# Altium footprint library magcontrol.PCBLIB: 54 footprints (part 1 of 4)
Each footprint in its own frame and in the unit in brackets; x right, y up, seen from the top. Pads: shape width x height; smd on the part's side, far side on the other; paste and mask are expansions set on the pad; w line width, h text height; cw(c..) or ccw(c..) is an arc to the next point about the centre after c.
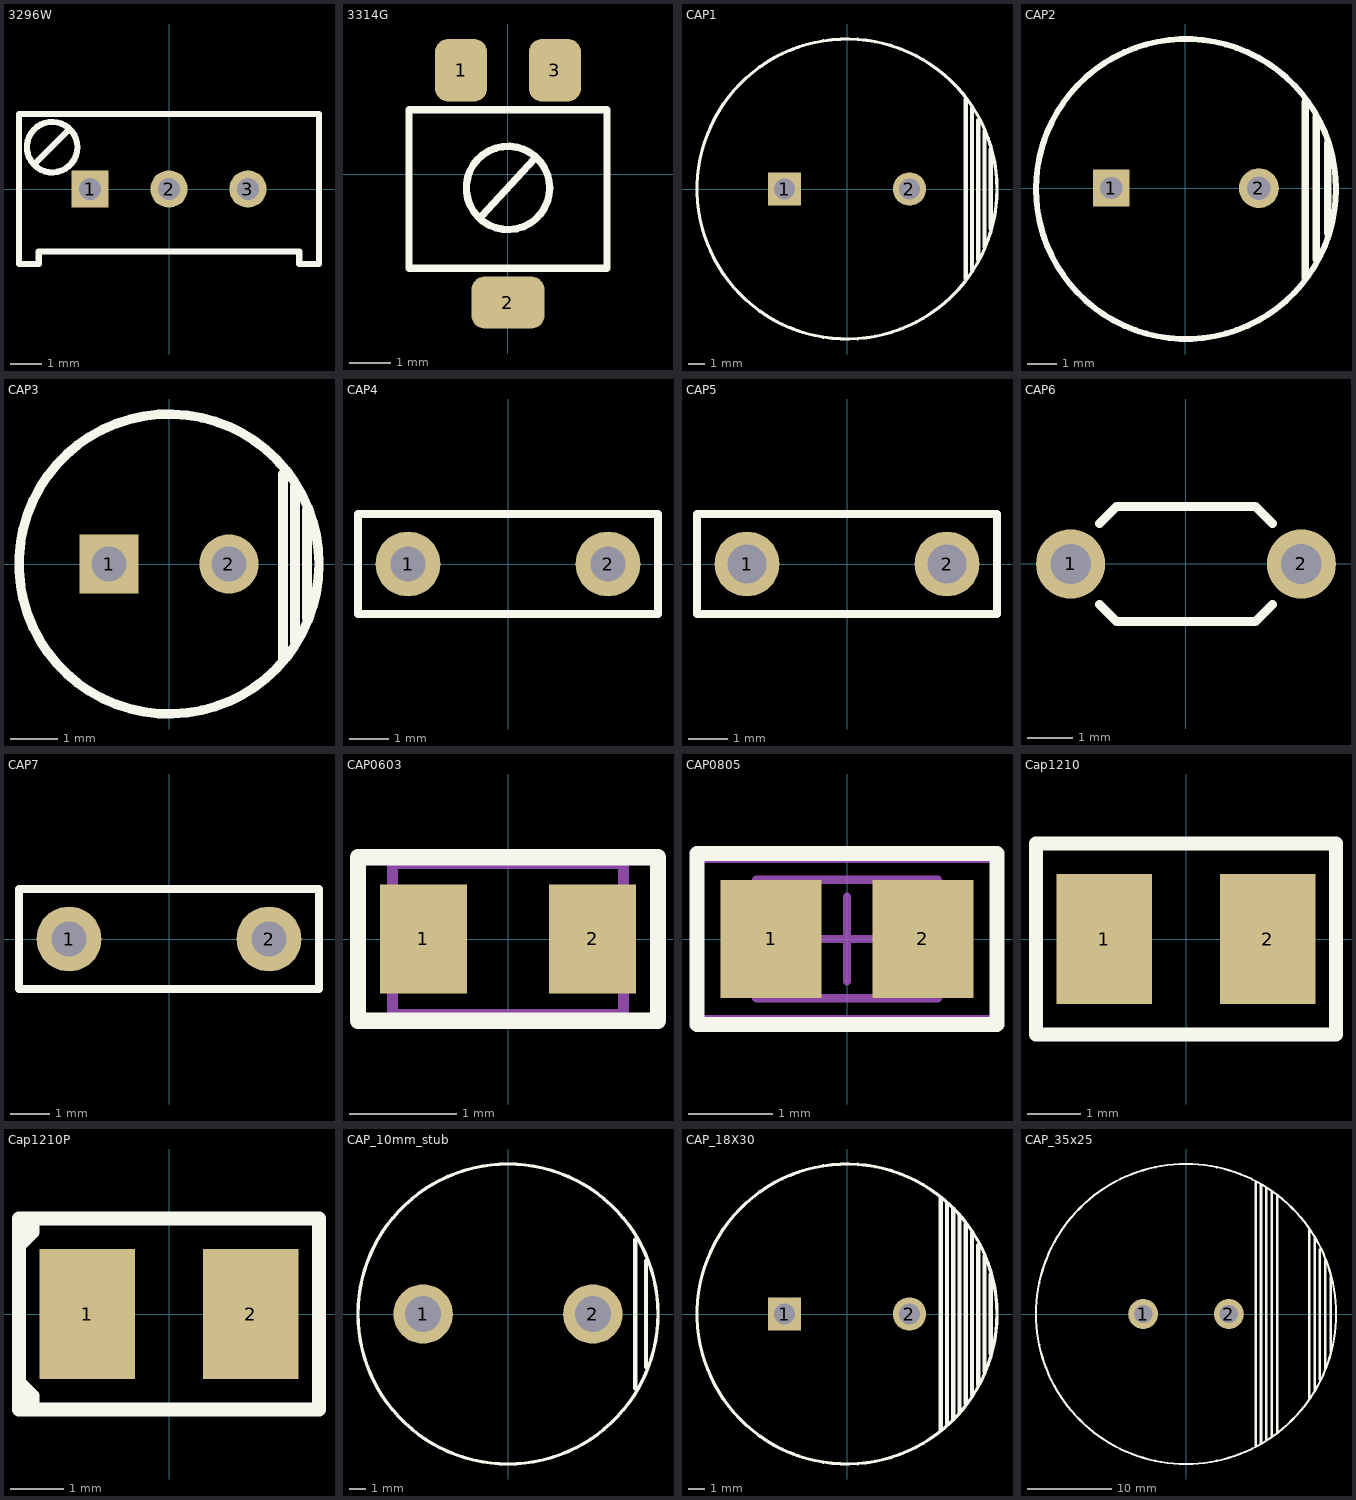
[diagram p0: the footprints below, top view; thin cyan lines are the x and y axes]

## 3296W [mm] "Thru-Hole; 3 Leads"
pads (3):
  rect 1.2x1.2 hole 0.7: 1(-2.54,0)
  round 1.2 hole 0.7: 2(0,0) 3(2.54,0)
Top Overlay:
  circle w0.2: c-3.759,1.346 r0.813
  lines w0.2: -4.318,0.813 -3.264,1.867 ; -4.826,-2.413 -4.826,2.413 4.826,2.413 4.826,-2.413 4.191,-2.413 4.191,-2.007 -4.191,-2.007 -4.191,-2.413 -4.826,-2.413
3D body: height 1.27, standoff -1.27, extent 2.357,-0.183 2.723,0.183
3D body: height 1.27, standoff -1.27, extent -0.183,-0.183 0.183,0.183
3D body: height 1.27, standoff -1.27, extent -2.723,-0.183 -2.357,0.183
3D body: height 10.29, standoff 0.25, extent -4.825,-2.412 4.825,2.412
3D body: height 11.94, standoff 10.16, extent -4.659,0.001 -3.782,2.234
3D body: height 11.94, standoff 10.16, extent -3.229,0.001 -2.352,2.234
3D body: height 11.3, standoff 10.16, extent -4.658,-0.035 -2.353,2.27

## 3314G [mil] "Thru-Hole; 3 Leads"
pads (3):
  rrect50% 50x60 smd: 1(-45,100) 3(45,100)
  rrect50% 70x50 smd: 2(0,-123)
Top Overlay:
  circle w7: c0,-13 r40
  lines w7: -25,-40 25,15 ; -95,-90 95,-90 95,62 -95,62 -95,-90
3D body: height 106.92, standoff -0.5, extent -97.81,-135 99,109

## CAP1 [mil]
height 1000
pads (2):
  rect 80x80 hole 50: 1(-150,0)
  round 80 hole 50: 2(150,0)
Top Overlay:
  circle w7.87: c0,0 r360
  lines w10: 285,-215 285,215 ; 300,-195 300,195 ; 315,-170 315,165 ; 330,-140 330,140 ; 345,-95 345,95
3D body: height 1304.29, standoff -251.22, extent -354.33,-354.32 354.72,354.34

## CAP2 [mm]
pads (2):
  rect 1.25x1.25 hole 0.75: 1(-2.5,0)
  round 1.35 hole 0.8: 2(2.5,0)
Top Overlay:
  circle w0.2: c0.03,-0.03 r5.08
  lines w0.254: 4.064,-3.048 4.064,2.921 ; 4.445,-2.413 4.445,2.413 ; 4.826,-1.524 4.826,1.524
3D body: height 14.1, standoff -4.72, extent -4.971,-5.01 5.029,4.978

## CAP3 [mm] "Capacitor, Electrolytic, Radial; Body 5 x 6.8 mm (Dia.xH typ); Pin Spacing 2 mm (typ)"
pads (2):
  rect 1.25x1.25 hole 0.75: 1(-1.27,0)
  round 1.25 hole 0.75: 2(1.27,0)
Top Overlay:
  circle w0.2: c0,0 r3.176
  lines w0.203: 2.413,-2.032 2.413,1.905 ; 2.667,-1.651 2.667,1.651 ; 2.921,-1.143 2.921,1.143
3D body: height 11.53, standoff -3.01, extent -3.176,-3.175 3.175,3.175

## CAP4 [mm]
height 6
pads (2):
  round 1.65 hole 0.889: 1(-2.54,0) 2(2.54,0)
Top Overlay:
  lines w0.2: -3.81,-1.27 -3.81,1.27 3.81,1.27 3.81,-1.27 -3.81,-1.27
3D body: height 7.85, standoff -4.35, extent -3.75,-1.25 3.75,1.25

## CAP5 [mm] "Capacitor, Ceramic, High Voltage"
height 6
pads (2):
  round 1.65 hole 1: 1(-2.54,0) 2(2.54,0)
Top Overlay:
  lines w0.2: -3.81,-1.27 3.81,-1.27 3.81,1.27 -3.81,1.27 -3.81,-1.27
3D body: height 10.6, standoff -1.96, extent -4,-1.26 4,1.25

## CAP6 [mil]
height 236.22
pads (2):
  round 60 hole 35: 1(-100,0) 2(100,0)
Top Overlay:
  lines w7.87: -75,-35 -60,-50 60,-50 75,-35 ; -75,35 -60,50 60,50 75,35
3D body: height 257.48, standoff -98.43, extent -108.27,-50 108.27,48.43

## CAP7 [mm]
height 6
pads (2):
  round 1.65 hole 0.889: 1(-2.54,0) 2(2.54,0)
Top Overlay:
  lines w0.2: -3.81,-1.27 -3.81,1.27 3.81,1.27 3.81,-1.27 -3.81,-1.27
3D body: height 10.86, standoff -1.71, extent -4,-1.27 4,1.24

## CAP0603 [mil]
height 25
pads (2):
  rect 32x40 smd: 1(-31,0) 2(31,0)
Top Overlay:
  lines w6: -55,-30 55,-30 55,30 -55,30 -55,-30
Mechanical 13:
  lines w3.94: -42.32,-27.56 -42.32,27.56 42.32,27.56 42.32,-27.56 -42.32,-27.56
3D body: height 30, standoff 0, extent -30,-15 30,15

## CAP0805 [mm]
height 0.762
pads (2):
  rect 1.2x1.4 smd: 1(-0.9,0) 2(0.9,0)
Top Overlay:
  lines w0.178: -1.778,-1.016 1.778,-1.016 1.778,1.016 -1.778,1.016 -1.778,-1.016
Mechanical 13:
  lines w0.1: -1.075,-0.7 -1.075,0.7 1.075,0.7 1.075,-0.7 -1.075,-0.7
Mechanical 15:
  lines w0.1: -0.5,0 0.5,0 ; 0,-0.5 0,0.5 ; -1.75,-0.95 -1.75,0.95 1.75,0.95 1.75,-0.95 -1.75,-0.95
3D body: height 0.78, standoff 0, extent -1,-0.625 1,0.625

## Cap1210 [mil]
pads (2):
  rect 70x95 smd: 1(-60,0) 2(60,0)
Top Overlay:
  lines w10: -110,-70 -110,70 110,70 110,-70 -110,-70
3D body: height 79.92, standoff 0, extent -72.83,-57.67 72.84,57.68

## Cap1210P [mil]
pads (2):
  rect 70x95 smd: 1(-60,0) 2(60,0)
Top Overlay:
  lines w10: -110,-50 -100,-60 -100,-70 ; -110,50 -100,60 -100,70 ; -110,-70 -110,70 110,70 110,-70 -110,-70
3D body: height 79.92, standoff 0, extent -72.83,-57.67 72.84,57.68

## CAP_10mm_stub [mil]
pads (2):
  round 140 hole 85: 1(-200,0) 2(200,0)
Top Overlay:
  circle w8: c0,0 r353.55
  lines w10: 300,-175 300,175 ; 325,-125 325,125
3D body: height 0, standoff -2, extent 174.53,-25.47 225.47,25.47
3D body: height 0, standoff -2, extent -225.47,-25.47 -174.53,25.47

## CAP_18X30 [mil]
height 1000
pads (2):
  rect 80x80 hole 50: 1(-150,0)
  round 80 hole 50: 2(150,0)
Top Overlay:
  circle w7.87: c0,0 r360
  lines w10: 225,-277 225,277 ; 240,-265 240,265 ; 255,-253 255,253 ; 270,-235 270,235 ; 285,-215 285,215 ; 300,-195 300,195 ; 315,-170 315,165 ; 330,-140 330,140 ; 345,-95 345,95
3D body: height 1183.07, standoff -118.11, extent -353.12,-354.33 356.3,354.33

## CAP_35x25 [mil]
height 236.22
pads (2):
  round 140 hole 85: 1(-200,0) 2(200,0)
Top Overlay:
  circle w10: c0,0 r700
  lines w12: 325,-615 325,615 ; 350,-605 350,600 ; 375,-590 375,585 ; 400,-570 400,570 ; 425,-555 425,555 ; 575,-390 575,390 ; 600,-360 600,360 ; 625,-305 625,300 ; 650,-255 650,250 ; 675,-175 675,175
3D body: height 1052, standoff 28, extent -445.4,-445.4 445.4,445.4
3D body: height 1055, standoff 25, extent 434.64,-178.61 690.46,178.61
3D body: height 1050, standoff 30, extent -685.42,-685.42 685.42,685.42
3D body: height 50, standoff -50, extent -235.28,-35.28 -164.72,35.28
3D body: height 50, standoff -50, extent 164.72,-35.28 235.28,35.28
3D body: height 20, standoff -60, extent -220.37,-20.37 -179.63,20.37
3D body: height 20, standoff -60, extent 179.63,-20.37 220.37,20.37